# EAGLE library part AP2502 (library AP2502)
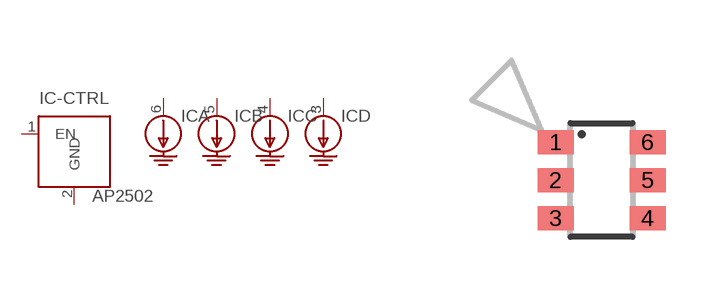
[diagram p0: symbol with the pads of SOT23-6; footprint SOT23-6]

Designator prefix IC; gates -CTRL=AP2502-CTRL A=AP2502-CHANNEL B=AP2502-CHANNEL C=AP2502-CHANNEL D=AP2502-CHANNEL

## AP2502KTR-G1 (MARK: GEE; MF: Diodes Inc; MPN: AP2502KTR-G1)  [SOT23-6]
1  -CTRL:EN  in
2  -CTRL:GND  pwr
3  D:LED  oc
4  C:LED  oc
5  B:LED  oc
6  A:LED  oc

## AP2502KTTR-G1 (MARK: L7E; MF: Diodes Inc; MPN: AP2502KTTR-G1)  [SOT23-6]
Pads as for SOT23-6

## Footprint SOT23-6 (pad centres in mm)
Small Outline Transistor 6 lead
smd 0.9 x 0.6: 1 -1.15,0.95; 2 -1.15,0; 3 -1.15,-0.95; 4 1.15,-0.95; 5 1.15,0; 6 1.15,0.95